# Altium footprint library 1000u.PcbLib: 1 footprints
Each footprint in its own frame and in the unit in brackets; x right, y up, seen from the top. Pads: shape width x height; smd on the part's side, far side on the other; paste and mask are expansions set on the pad; w line width, h text height; cw(c..) or ccw(c..) is an arc to the next point about the centre after c.
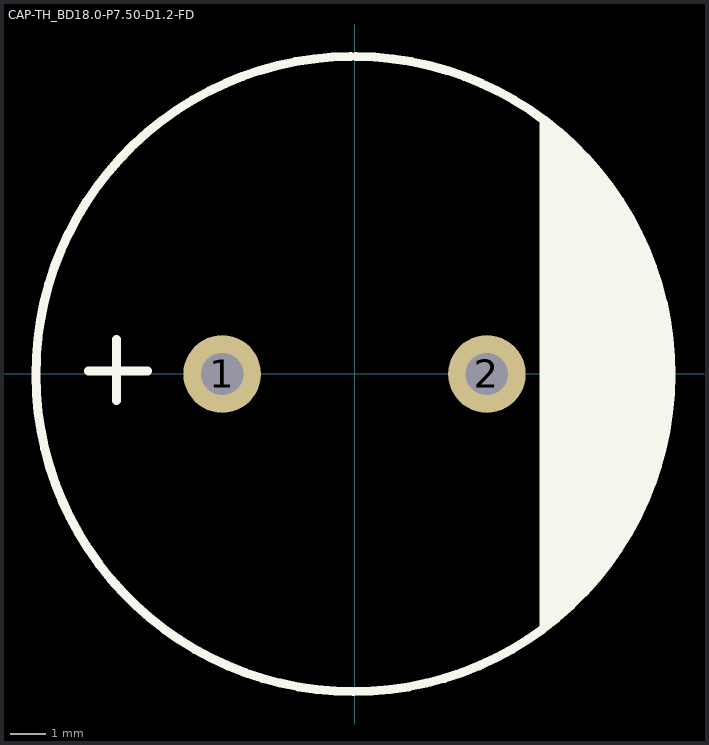
[diagram p0: the footprint, top view; thin cyan lines are the x and y axes]

## CAP-TH_BD18.0-P7.50-D1.2-FD [mm]
pads (2):
  round 2.2 hole 1.2: 1(-3.75,0) 2(3.75,0)
Top Overlay:
  region: 5.25,-7.25 5.596,-7.005 6.239,-6.451 6.826,-5.838 7.352,-5.171 7.812,-4.458 8.202,-3.704 8.518,-2.917 8.758,-2.103 8.919,-1.269 9,-0.424 9,0.424 8.919,1.269 8.758,2.103 8.518,2.917 8.202,3.704 7.812,4.458 7.352,5.171 6.826,5.838 6.239,6.451 5.596,7.005 5.25,7.25
  lines w0.254: -7.537,0.088 -5.861,0.088 ; -6.75,-0.75 -6.75,0.977 ; -0.111,8.999 ccw(c-0.032,0) 0.047,8.999